# Altium schematic symbol library LED_Green.SchLib: 1 symbol
Pins are listed as number, name and electrical type; pins without a type are passive.

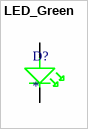
[diagram p0: symbol LED_Green]

## LED_Green
designator D?
pins: A, C